# Altium schematic symbol library ADF4360-8.SchLib: 1 symbol
Pins are listed as number, name and electrical type; pins without a type are passive.

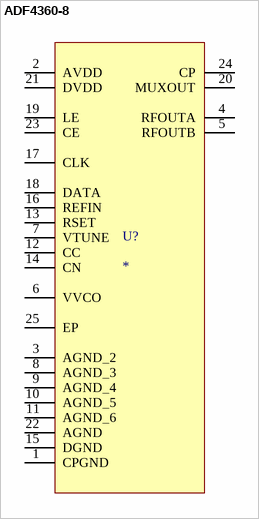
[diagram p0: symbol ADF4360-8]

## ADF4360-8
designator U?
Integrated PLL Synthesizer with VCO; MP: ADF4360-8BCPZRL7; Package: None; Price: None; Value: *; Availability: Unavailable
footprint QFN50P400X400X100-25N
pins: 1 CPGND, 2 AVDD (power), 3 AGND_2, 4 RFOUTA, 5 RFOUTB, 6 VVCO (power), 7 VTUNE, 8 AGND_3, 9 AGND_4, 10 AGND_5, 11 AGND_6, 12 CC, 13 RSET, 14 CN, 15 DGND, 16 REFIN, 17 CLK, 18 DATA, 19 LE, 20 MUXOUT, 21 DVDD (power), 22 AGND, 23 CE, 24 CP, 25 EP